# EAGLE library part 1456491-CON (library SACC-DSI-(MF)S-5CON-L180)
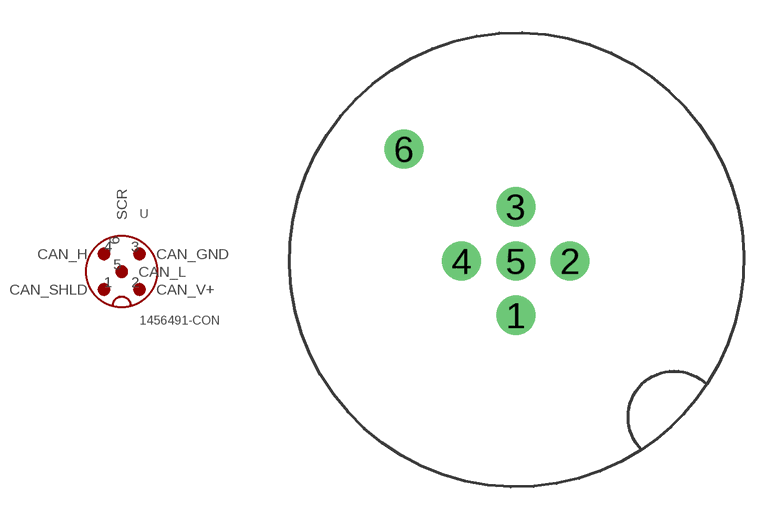
[diagram p3: symbol with the pads of SACC-DSI-MS-5CON-L180; footprint SACC-DSI-MS-5CON-L180]

Designator prefix -

## 1456491-CON  [SACC-DSI-MS-5CON-L180]
1  CAN_SHLD
2  CAN_V+
3  CAN_GND
4  CAN_H
5  CAN_L
6  SCR

## Footprint SACC-DSI-MS-5CON-L180 (pad centres in mm)
Phoenix Contact 5-pin CAN bus connector SACC-DSI-FS-5CON-L180/SH VT - 1456491 Product page <https://www.phoenixcontact.com/us/products/1456491>
drill 1.2: 1 0,-2.5; 2 2.5,0; 3 0,2.5; 4 -2.5,0; 5 0,0; 6 -5.162,5.162